# EAGLE library part B12B-PH (library con-jst-ph)
JST PH series header 2.00mm pitch disconnectable crimp style connectors, vertical (side entry type), 12 pins
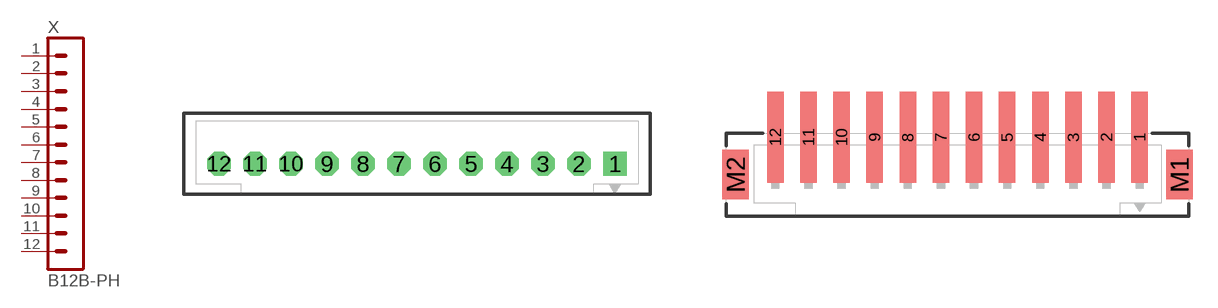
[diagram p6: symbol with the pads of B12B-PH-KL-S; footprints B12B-PH-KL-S, B12B-PH-SM4-TB]

Designator prefix X

## B12B-PH-KL-S  [B12B-PH-KL-S]
1  1  pas
2  2  pas
3  3  pas
4  4  pas
5  5  pas
6  6  pas
7  7  pas
8  8  pas
9  9  pas
10  10  pas
11  11  pas
12  12  pas

## B12B-PH-SM4-TB  [B12B-PH-SM4-TB]
Pads as for B12B-PH-KL-S

## Footprint B12B-PH-KL-S (pad centres in mm)
JST PH series header 2.00mm pitch disconnectable crimp style connectors, through-hole vertical (top entry type), 12 pins
drill 0.7 pad 1.321 square: 1 11,0
drill 0.7 pad 1.321 octagon: 2 9,0; 3 7,0; 4 5,0; 5 3,0; 6 1,0; 7 -1,0; 8 -3,0; 9 -5,0; 10 -7,0; 11 -9,0; 12 -11,0

## Footprint B12B-PH-SM4-TB (pad centres in mm)
JST PH series header 2.00mm pitch disconnectable crimp style connectors, SMT vertical (top entry type), 12 pins
smd 1 x 5.5: 1 11,0; 2 9,0; 3 7,0; 4 5,0; 5 3,0; 6 1,0; 7 -1,0; 8 -3,0; 9 -5,0; 10 -7,0; 11 -9,0; 12 -11,0
smd 1.6 x 3: M1 13.4,-2.25; M2 -13.4,-2.25